# Altium schematic symbol library USB C.SchLib: 1 symbol
Pins are listed as number, name and electrical type; pins without a type are passive.

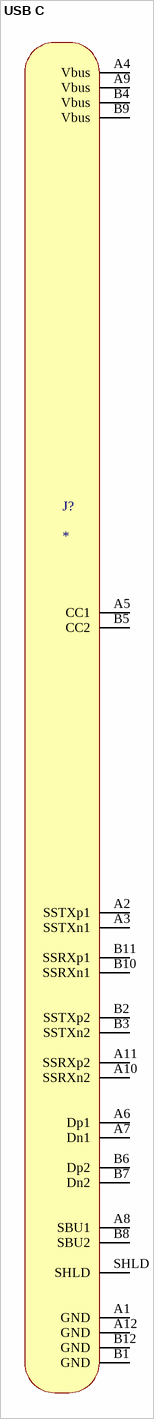
[diagram p0: symbol USB C]

## USB C
designator J?
pins: A1 GND, A2 SSTXp1, A3 SSTXn1, A4 Vbus, A5 CC1, A6 Dp1, A7 Dn1, A8 SBU1, A9 Vbus, A10 SSRXn2, A11 SSRXp2, A12 GND, B1 GND, B2 SSTXp2, B3 SSTXn2, B4 Vbus, B5 CC2, B6 Dp2, B7 Dn2, B8 SBU2, B9 Vbus, B10 SSRXn1, B11 SSRXp1, B12 GND, SHLD